# Altium footprint library SON13P45_300X300X80L40X23T250X160N.PcbLib: 1 footprints
Each footprint in its own frame and in the unit in brackets; x right, y up, seen from the top. Pads: shape width x height; smd on the part's side, far side on the other; paste and mask are expansions set on the pad; w line width, h text height; cw(c..) or ccw(c..) is an arc to the next point about the centre after c.
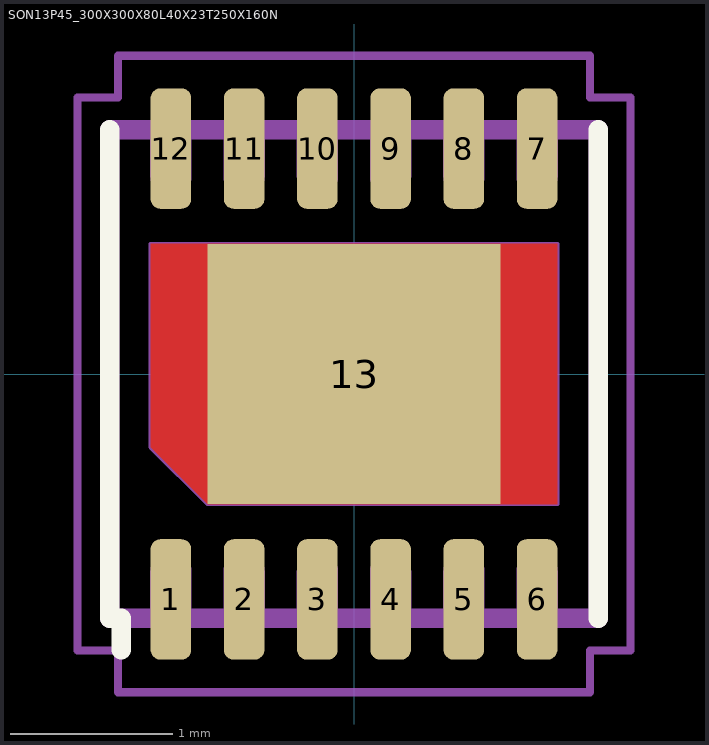
[diagram p0: the footprint, top view; thin cyan lines are the x and y axes]

## SON13P45_300X300X80L40X23T250X160N [mm] "Small Outline No-Lead (SON with Tab), 0.45 mm pitch; 12 pin, 3.00 mm L X 3.00 mm W X 0.80 mm H body"
height 0.8
pads (13):
  rrect48% 0.25x0.74 smd: 1(-1.125,-1.385) 2(-0.675,-1.385) 3(-0.225,-1.385) 4(0.225,-1.385) 5(0.675,-1.385) 6(1.125,-1.385) 7(1.125,1.385) 8(0.675,1.385) 9(0.225,1.385) 10(-0.225,1.385) 11(-0.675,1.385) 12(-1.125,1.385)
  rect 1.8x1.6 smd paste-1.8 mask+0: 13(0,0)
Top Layer:
  region: 1.25,-0.8 -0.9,-0.8 -1.25,-0.45 -1.25,0.8 1.25,0.8
Top Overlay:
  lines w0.12: -1.5,-1.5 -1.5,1.5 ; -1.43,-1.695 -1.43,-1.5 ; 1.5,-1.5 1.5,1.5
Top Paste:
  region: -0.095,0.095 -1.065,0.095 -1.065,0.615 -0.095,0.615
  region: -0.095,-0.615 -1.065,-0.615 -1.065,-0.095 -0.095,-0.095
  region: 1.065,0.095 0.095,0.095 0.095,0.615 1.065,0.615
  region: 1.065,-0.615 0.095,-0.615 0.095,-0.095 1.065,-0.095
Top Solder:
  region: 1.25,-0.8 -0.9,-0.8 -1.25,-0.45 -1.25,0.8 1.25,0.8
Mechanical 11:
  lines w0.12: -1.5,-1.5 1.5,-1.5 1.5,1.5 -1.5,1.5 -1.5,-1.5
Mechanical 12:
  lines w0.025: -1.5,-1.5 1.5,-1.5 1.5,1.5 -1.5,1.5 -1.5,-1.5 ; -1.25,-0.45 -0.9,-0.8 1.25,-0.8 1.25,0.8 -1.25,0.8 -1.25,-0.45 ; -1.24,-1.5 -1.01,-1.5 -1.01,-1.215 ccw(c-1.125,-1.215) -1.24,-1.215 -1.24,-1.5 ; -1.24,1.215 ccw(c-1.125,1.215) -1.01,1.215 -1.01,1.5 -1.24,1.5 -1.24,1.215 ; -0.79,-1.5 -0.56,-1.5 -0.56,-1.215 ccw(c-0.675,-1.215) -0.79,-1.215 -0.79,-1.5 ; -0.79,1.215 ccw(c-0.675,1.215) -0.56,1.215 -0.56,1.5 -0.79,1.5 -0.79,1.215 ; -0.34,-1.5 -0.11,-1.5 -0.11,-1.215 ccw(c-0.225,-1.215) -0.34,-1.215 -0.34,-1.5 ; -0.34,1.215 ccw(c-0.225,1.215) -0.11,1.215 -0.11,1.5 -0.34,1.5 -0.34,1.215 ; 0.11,-1.5 0.34,-1.5 0.34,-1.215 ccw(c0.225,-1.215) 0.11,-1.215 0.11,-1.5 ; 0.11,1.215 ccw(c0.225,1.215) 0.34,1.215 0.34,1.5 0.11,1.5 0.11,1.215 ; 0.56,-1.5 0.79,-1.5 0.79,-1.215 ccw(c0.675,-1.215) 0.56,-1.215 0.56,-1.5 ; 0.56,1.215 ccw(c0.675,1.215) 0.79,1.215 0.79,1.5 0.56,1.5 0.56,1.215 ; 1.01,-1.5 1.24,-1.5 1.24,-1.215 ccw(c1.125,-1.215) 1.01,-1.215 1.01,-1.5 ; 1.01,1.215 ccw(c1.125,1.215) 1.24,1.215 1.24,1.5 1.01,1.5 1.01,1.215
Mechanical 15:
  circle w0.05: c0,0 r0.25
  lines w0.05: -0.35,0 0.35,0 ; 0,-0.35 0,0.35 ; -1.7,-1.7 -1.45,-1.7 -1.45,-1.955 1.45,-1.955 1.45,-1.7 1.7,-1.7 1.7,1.7 1.45,1.7 1.45,1.955 -1.45,1.955 -1.45,1.7 -1.7,1.7 -1.7,-1.7
Mechanical 16:
  text ".Designator" at 0,0 h1.2